# Altium footprint library lab1.PcbLib: 15 footprints
Each footprint in its own frame and in the unit in brackets; x right, y up, seen from the top. Pads: shape width x height; smd on the part's side, far side on the other; paste and mask are expansions set on the pad; w line width, h text height; cw(c..) or ccw(c..) is an arc to the next point about the centre after c.
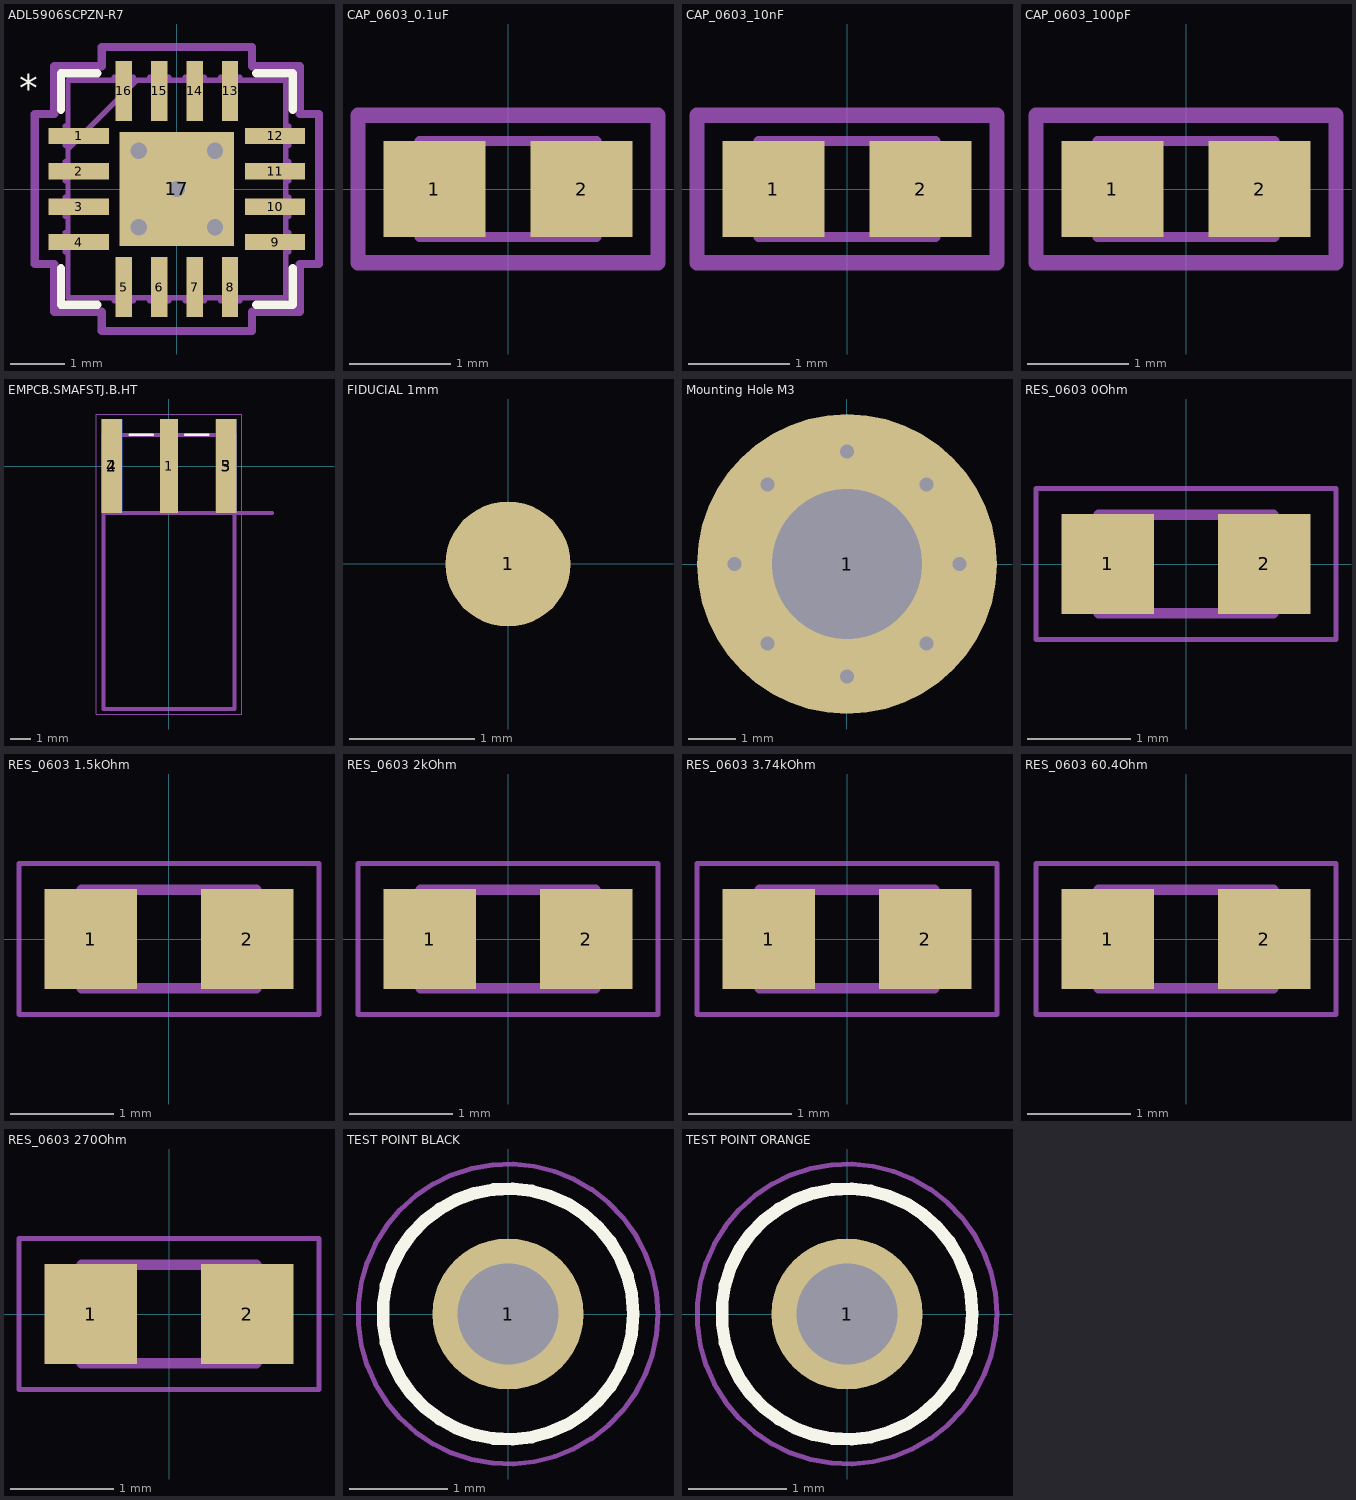
[diagram p0: the footprints below, top view; thin cyan lines are the x and y axes]

## ADL5906SCPZN-R7 [mm]
pads (17):
  rect 1.105x0.299 smd paste+0 mask+0: 1(-1.802,0.975) 2(-1.802,0.325) 3(-1.802,-0.325) 4(-1.802,-0.975) 9(1.802,-0.975) 10(1.802,-0.325) 11(1.802,0.325) 12(1.802,0.975)
  rect 0.299x1.105 smd paste+0 mask+0: 5(-0.975,-1.802) 6(-0.325,-1.802) 7(0.325,-1.802) 8(0.975,-1.802) 13(0.975,1.802) 14(0.325,1.802) 15(-0.325,1.802) 16(-0.975,1.802)
  rect 2.1x2.1 smd paste+0 mask+0: 17(0,0)
via -0.7,0.7 diameter 0.5 hole 0.3
via 0.7,0.7 diameter 0.5 hole 0.3
via 0.7,-0.7 diameter 0.5 hole 0.3
via -0.7,-0.7 diameter 0.5 hole 0.3
via 0,0 diameter 0.5 hole 0.3
Top Overlay:
  lines w0.152: -2.127,-1.457 -2.127,-2.127 -1.457,-2.127 ; -2.127,1.457 -2.127,2.127 -1.457,2.127 ; 1.457,-2.127 2.127,-2.127 2.127,-1.457 ; 1.457,2.127 2.127,2.127 2.127,1.457
  text "*" at -2.9,1.6 h0.5
Top Assembly:
  lines w0.1: -2,0.73 -0.73,2 ; -2.05,-1.15 -2,-1.15 -2,-0.8 -2.05,-0.8 -2.05,-1.15 ; -2.05,-0.5 -2,-0.5 -2,-0.15 -2.05,-0.15 -2.05,-0.5 ; -2.05,0.15 -2,0.15 -2,0.5 -2.05,0.5 -2.05,0.15 ; -2.05,0.8 -2,0.8 -2,1.15 -2.05,1.15 -2.05,0.8 ; -2,-2 2,-2 2,2 -2,2 -2,-2 ; -1.15,-2.05 -1.15,-2 -0.8,-2 -0.8,-2.05 -1.15,-2.05 ; -1.15,2 -1.15,2.05 -0.8,2.05 -0.8,2 -1.15,2 ; -0.5,-2.05 -0.5,-2 -0.15,-2 -0.15,-2.05 -0.5,-2.05 ; -0.5,2 -0.5,2.05 -0.15,2.05 -0.15,2 -0.5,2 ; 0.15,-2.05 0.15,-2 0.5,-2 0.5,-2.05 0.15,-2.05 ; 0.15,2 0.15,2.05 0.5,2.05 0.5,2 0.15,2 ; 0.8,-2.05 0.8,-2 1.15,-2 1.15,-2.05 0.8,-2.05 ; 0.8,2 0.8,2.05 1.15,2.05 1.15,2 0.8,2 ; 2,-1.15 2.05,-1.15 2.05,-0.8 2,-0.8 2,-1.15 ; 2,-0.5 2.05,-0.5 2.05,-0.15 2,-0.15 2,-0.5 ; 2,0.15 2.05,0.15 2.05,0.5 2,0.5 2,0.15 ; 2,0.8 2.05,0.8 2.05,1.15 2,1.15 2,0.8
Top Courtyard:
  lines w0.152: -2.609,-1.379 -2.254,-1.379 -2.254,-2.254 -1.379,-2.254 -1.379,-2.609 1.379,-2.609 1.379,-2.254 2.254,-2.254 2.254,-1.379 2.609,-1.379 2.609,1.379 2.254,1.379 2.254,2.254 1.379,2.254 1.379,2.609 -1.379,2.609 -1.379,2.254 -2.254,2.254 -2.254,1.379 -2.609,1.379 -2.609,-1.379
3D body "CP_16_23_ADI.step": height 0.8, standoff 0, extent -2.05,-2.05 2.05,2.05

## CAP_0603_0.1uF [mm]
pads (2):
  rect 1.006x0.95 smd paste+0 mask+0: 1(-0.728,0) 2(0.728,0)
Top Assembly:
  lines w0.1: -0.875,-0.475 0.875,-0.475 ; -0.875,-0.475 -0.875,0.475 ; -0.875,-0.475 -0.875,0.475 ; -0.875,-0.475 -0.375,-0.475 -0.375,0.475 -0.875,0.475 ; -0.875,0.475 0.875,0.475 ; 0.875,-0.475 0.875,0.475 ; 0.875,-0.475 0.875,0.475 ; 0.875,-0.475 0.375,-0.475 0.375,0.475 0.875,0.475
Top Courtyard:
  lines w0.152: -1.485,-0.729 1.485,-0.729 1.485,0.729 -1.485,0.729 -1.485,-0.729
3D body "CAPC17595_95N_KEM.step": height 0.95, standoff 0, extent -0.875,-0.475 0.875,0.475

## CAP_0603_10nF [mm]
pads (2):
  rect 1.006x0.95 smd paste+0 mask+0: 1(-0.728,0) 2(0.728,0)
Top Assembly:
  lines w0.1: -0.875,-0.475 0.875,-0.475 ; -0.875,-0.475 -0.875,0.475 ; -0.875,-0.475 -0.875,0.475 ; -0.875,-0.475 -0.375,-0.475 -0.375,0.475 -0.875,0.475 ; -0.875,0.475 0.875,0.475 ; 0.875,-0.475 0.875,0.475 ; 0.875,-0.475 0.875,0.475 ; 0.875,-0.475 0.375,-0.475 0.375,0.475 0.875,0.475
Top Courtyard:
  lines w0.152: -1.485,-0.729 1.485,-0.729 1.485,0.729 -1.485,0.729 -1.485,-0.729
3D body "CAPC17595_87N_KEM.step": height 0.87, standoff 0, extent -0.875,-0.475 0.875,0.475

## CAP_0603_100pF [mm]
pads (2):
  rect 1.006x0.95 smd paste+0 mask+0: 1(-0.728,0) 2(0.728,0)
Top Assembly:
  lines w0.1: -0.875,-0.475 0.875,-0.475 ; -0.875,-0.475 -0.875,0.475 ; -0.875,-0.475 -0.875,0.475 ; -0.875,-0.475 -0.375,-0.475 -0.375,0.475 -0.875,0.475 ; -0.875,0.475 0.875,0.475 ; 0.875,-0.475 0.875,0.475 ; 0.875,-0.475 0.875,0.475 ; 0.875,-0.475 0.375,-0.475 0.375,0.475 0.875,0.475
Top Courtyard:
  lines w0.152: -1.485,-0.729 1.485,-0.729 1.485,0.729 -1.485,0.729 -1.485,-0.729
3D body "CAPC17595_87N_KEM.step": height 0.87, standoff 0, extent -0.875,-0.475 0.875,0.475

## EMPCB.SMAFSTJ.B.HT [mm]
pads (5):
  rect 0.85x4.56 smd: 1(0,0)
  rect 1x4.56 smd: 2(-2.77,0) 3(2.77,0)
  rect 1x4.56 smd far side: 4(-2.77,0) 5(2.77,0)
Top Overlay:
  lines w0.127: -1.9,1.52 -0.8,1.52 ; 0.8,1.52 1.9,1.52
Top Assembly:
  lines w0.2: 5,-2.28 -3.175,-2.28 ; -3.175,-2.28 -3.175,-11.78 3.175,-11.78 3.175,1.52 -3.175,1.52 -3.175,-2.28
  text "PCB EDGE" at 3.807,-2.104 h0.41
Top Courtyard:
  lines w0.05: -3.52,-12.03 3.52,-12.03 3.52,2.53 -3.52,2.53 -3.52,-12.03
Bottom Courtyard (Mech16):
  lines w0.05: -3.52,-12.03 -3.52,2.53 3.52,2.53 3.52,-12.03 -3.52,-12.03
3D body "step_temp.STEP": height 3.58, standoff -2.8, extent -3.191,-11.8 3.191,1.5

## FIDUCIAL 1mm [mm]
pads (1):
  round 1 smd paste-1 mask+0.5: 1(0,0)
Multi-Layer:
  pour cut-out: 0,-1.2 -0.118,-1.2 -0.35,-1.154 -0.568,-1.063 -0.765,-0.932 -0.932,-0.765 -1.063,-0.568 -1.154,-0.35 -1.2,-0.118 -1.2,0 -1.2,0.118 -1.154,0.35 -1.063,0.568 -0.932,0.765 -0.765,0.932 -0.568,1.063 -0.35,1.154 -0.118,1.2 0,1.2 0.118,1.2 0.35,1.154 0.568,1.063 0.765,0.932 0.932,0.765 1.063,0.568 1.154,0.35 1.2,0.118 1.2,0 1.2,-0.118 1.154,-0.35 1.063,-0.568 0.932,-0.765 0.765,-0.932 0.568,-1.063 0.35,-1.154 0.118,-1.2

## Mounting Hole M3 [mm]
pads (1):
  round 6.4 hole 3.2 mask+0.1: 1(0,0)
via 0,2.4 diameter 0.6 hole 0.3
via -2.4,0 diameter 0.6 hole 0.3
via 0,-2.4 diameter 0.6 hole 0.3
via 2.4,0 diameter 0.6 hole 0.3
via -1.7,1.7 diameter 0.6 hole 0.3
via 1.7,1.7 diameter 0.6 hole 0.3
via -1.7,-1.7 diameter 0.6 hole 0.3
via 1.7,-1.7 diameter 0.6 hole 0.3

## RES_0603 0Ohm [mm]
pads (2):
  rect 0.9x0.97 smd: 1(-0.76,0) 2(0.76,0)
Top Assembly:
  lines w0.1: -0.85,-0.48 -0.85,0.48 0.85,0.48 0.85,-0.48 -0.85,-0.48
Top Courtyard:
  lines w0.05: -1.46,-0.735 1.46,-0.735 1.46,0.735 -1.46,0.735 -1.46,-0.735
3D body "step_temp.STEP": height 0.55, standoff 0, extent -0.775,-0.4 0.775,0.4

## RES_0603 1.5kOhm [mm]
pads (2):
  rect 0.9x0.97 smd: 1(-0.76,0) 2(0.76,0)
Top Assembly:
  lines w0.1: -0.85,-0.48 -0.85,0.48 0.85,0.48 0.85,-0.48 -0.85,-0.48
Top Courtyard:
  lines w0.05: -1.46,-0.735 -1.46,0.735 1.46,0.735 1.46,-0.735 -1.46,-0.735
3D body "R1.5k.STEP": height 0.56, standoff 0.01, extent -0.775,-0.4 0.775,0.4

## RES_0603 2kOhm [mm]
pads (2):
  rect 0.9x0.97 smd: 1(-0.76,0) 2(0.76,0)
Top Assembly:
  lines w0.1: -0.85,-0.48 -0.85,0.48 0.85,0.48 0.85,-0.48 -0.85,-0.48
Top Courtyard:
  lines w0.05: -1.46,-0.735 -1.46,0.735 1.46,0.735 1.46,-0.735 -1.46,-0.735
3D body "R1.5k.STEP": height 0.56, standoff 0.01, extent -0.775,-0.4 0.775,0.4

## RES_0603 3.74kOhm [mm]
pads (2):
  rect 0.9x0.97 smd: 1(-0.76,0) 2(0.76,0)
Top Assembly:
  lines w0.1: -0.85,-0.48 -0.85,0.48 0.85,0.48 0.85,-0.48 -0.85,-0.48
Top Courtyard:
  lines w0.05: -1.46,-0.735 1.46,-0.735 1.46,0.735 -1.46,0.735 -1.46,-0.735
3D body "R1.5k.STEP": height 0.56, standoff 0.01, extent -0.775,-0.4 0.775,0.4

## RES_0603 60.4Ohm [mm]
pads (2):
  rect 0.9x0.97 smd: 1(-0.76,0) 2(0.76,0)
Top Assembly:
  lines w0.1: -0.85,-0.48 -0.85,0.48 0.85,0.48 0.85,-0.48 -0.85,-0.48
Top Courtyard:
  lines w0.05: -1.46,-0.735 -1.46,0.735 1.46,0.735 1.46,-0.735 -1.46,-0.735
3D body "R1.5k.STEP": height 0.56, standoff 0.01, extent -0.775,-0.4 0.775,0.4

## RES_0603 270Ohm [mm]
pads (2):
  rect 0.9x0.97 smd: 1(-0.76,0) 2(0.76,0)
Top Assembly:
  lines w0.1: -0.85,-0.48 0.85,-0.48 0.85,0.48 -0.85,0.48 -0.85,-0.48
Top Courtyard:
  lines w0.05: -1.46,-0.735 -1.46,0.735 1.46,0.735 1.46,-0.735 -1.46,-0.735
3D body "R1.5k.STEP": height 0.56, standoff 0.01, extent -0.775,-0.4 0.775,0.4

## TEST POINT BLACK [mm]
pads (1):
  round 1.53 hole 1.02: 1(0,0)
Top Overlay:
  circle w0.127: c0,0 r1.27
Top Assembly:
  circle w0.1: c0,0 r1.27
Top Courtyard:
  circle w0.05: c0,0 r1.52
3D body "5001--3DModel-STEP-630548.STEP": height 4.58, standoff -3.04, extent -1.27,-1.27 1.27,1.27

## TEST POINT ORANGE [mm]
pads (1):
  round 1.53 hole 1.02: 1(0,0)
Top Overlay:
  circle w0.127: c0,0 r1.27
Top Assembly:
  circle w0.1: c0,0 r1.27
Top Courtyard:
  circle w0.05: c0,0 r1.52
3D body "5003--3DModel-STEP-630548.STEP": height 4.58, standoff -3.04, extent -1.27,-1.27 1.27,1.27